# EAGLE library part DDR2X16 (library kmod-testing)
DDR2 x16 Based off a 2gb part
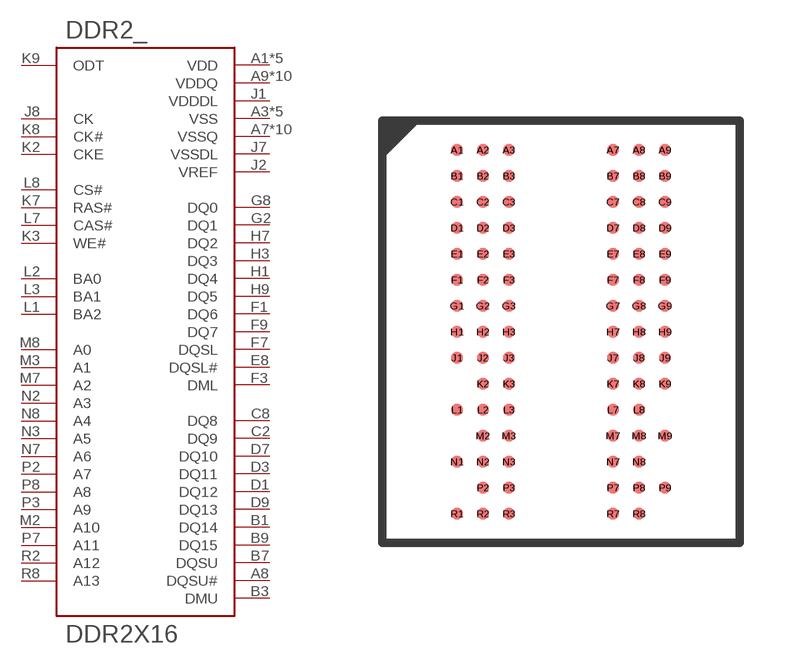
[diagram p7: symbol with the pads of BGA84; footprint BGA84]

Designator prefix DDR2_

## DDR2X16  [BGA84]
A1  VDD  in
A3  VSS  in
A7  VSSQ  in
A8  DQSU#  in
A9  VDDQ  in
B1  DQ14
B2  VSSQ  in
B3  DMU  in
B7  DQSU  in
B8  VSSQ  in
B9  DQ15
C1  VDDQ  in
C2  DQ9
C3  VDDQ  in
C7  VDDQ  in
C8  DQ8
C9  VDDQ  in
D1  DQ12
D2  VSSQ  in
D3  DQ11
D7  DQ10
D8  VSSQ  in
D9  DQ13
E1  VDD  in
E3  VSS  in
E7  VSSQ  in
E8  DQSL#  in
E9  VDDQ  in
F1  DQ6
F2  VSSQ  in
F3  DML  in
F7  DQSL  in
F8  VSSQ  in
F9  DQ7
G1  VDDQ  in
G2  DQ1
G3  VDDQ  in
G7  VDDQ  in
G8  DQ0
G9  VDDQ  in
H1  DQ4
H2  VSSQ  in
H3  DQ3
H7  DQ2
H8  VSSQ  in
H9  DQ5
J1  VDDDL  in
J2  VREF  in
J3  VSS  in
J7  VSSDL  in
J8  CK  in
J9  VDD  in
K2  CKE  in
K3  WE#  in
K7  RAS#  in
K8  CK#  in
K9  ODT
L1  BA2  in
L2  BA0  in
L3  BA1  in
L7  CAS#  in
L8  CS#  in
M2  A10  in
M3  A1  in
M7  A2  in
M8  A0  in
M9  VDD  in
N1  VSS  in
N2  A3  in
N3  A5  in
N7  A6  in
N8  A4  in
P2  A7  in
P3  A9  in
P7  A11  in
P8  A8  in
P9  VSS  in
R1  VDD  in
R2  A12  in
R8  A13  in

## Footprint BGA84 (pad centres in mm)
{W,F}BGA84 for DDR2 ICs Same rationale as the BGA96; just guessed
smd 0.35 x 0.35: A1 -3.2,5.6; A2 -2.4,5.6; A3 -1.6,5.6; A7 1.6,5.6; A8 2.4,5.6; A9 3.2,5.6; B1 -3.2,4.8; B2 -2.4,4.8; B3 -1.6,4.8; B7 1.6,4.8; B8 2.4,4.8; B9 3.2,4.8; C1 -3.2,4; C2 -2.4,4; C3 -1.6,4; C7 1.6,4; C8 2.4,4; C9 3.2,4; D1 -3.2,3.2; D2 -2.4,3.2; D3 -1.6,3.2; D7 1.6,3.2; D8 2.4,3.2; D9 3.2,3.2; E1 -3.2,2.4; E2 -2.4,2.4; E3 -1.6,2.4; E7 1.6,2.4; E8 2.4,2.4; E9 3.2,2.4; F1 -3.2,1.6; F2 -2.4,1.6; F3 -1.6,1.6; F7 1.6,1.6; F8 2.4,1.6; F9 3.2,1.6; G1 -3.2,0.8; G2 -2.4,0.8; G3 -1.6,0.8; G7 1.6,0.8; G8 2.4,0.8; G9 3.2,0.8; H1 -3.2,0; H2 -2.4,0; H3 -1.6,0; H7 1.6,0; H8 2.4,0; H9 3.2,0; J1 -3.2,-0.8; J2 -2.4,-0.8; J3 -1.6,-0.8; J7 1.6,-0.8; J8 2.4,-0.8; J9 3.2,-0.8; K2 -2.4,-1.6; K3 -1.6,-1.6; K7 1.6,-1.6; K8 2.4,-1.6; K9 3.2,-1.6; L1 -3.2,-2.4; L2 -2.4,-2.4; L3 -1.6,-2.4; L7 1.6,-2.4; L8 2.4,-2.4; M2 -2.4,-3.2; M3 -1.6,-3.2; M7 1.6,-3.2; M8 2.4,-3.2; M9 3.2,-3.2; N1 -3.2,-4; N2 -2.4,-4; N3 -1.6,-4; N7 1.6,-4; N8 2.4,-4; P2 -2.4,-4.8; P3 -1.6,-4.8; P7 1.6,-4.8; P8 2.4,-4.8; P9 3.2,-4.8; R1 -3.2,-5.6; R2 -2.4,-5.6; R3 -1.6,-5.6; R7 1.6,-5.6; R8 2.4,-5.6